# Altium schematic symbol library USB_3.0.Schlib: 1 symbol
Pins are listed as number, name and electrical type; pins without a type are passive.

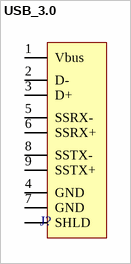
[diagram p0: symbol USB_3.0]

## USB_3.0
designator J?  (value not drawn)
pins: 1 Vbus, 2 D-, 3 D+, 4 GND, 5 SSRX-, 6 SSRX+, 7 GND, 8 SSTX-, 9 SSTX+, S SHLD